# Altium footprint library SMD 1x1x0.85mm.PcbLib: 1 footprints
Each footprint in its own frame and in the unit in brackets; x right, y up, seen from the top. Pads: shape width x height; smd on the part's side, far side on the other; paste and mask are expansions set on the pad; w line width, h text height; cw(c..) or ccw(c..) is an arc to the next point about the centre after c.
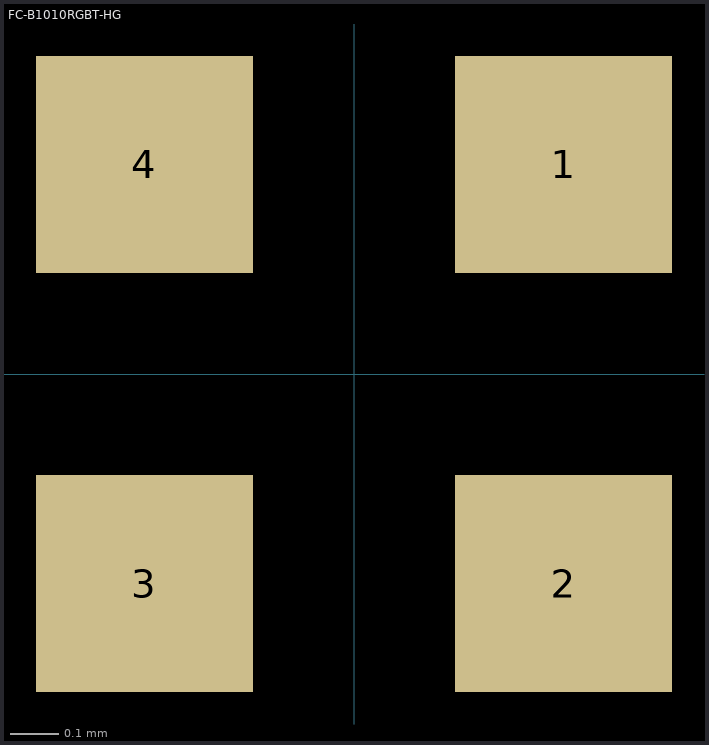
[diagram p0: the footprint, top view; thin cyan lines are the x and y axes]

## FC-B1010RGBT-HG [mm]
height 0.85
pads (4):
  rect 0.45x0.45 smd: 1(0.435,0.435) 2(0.435,-0.435) 3(-0.435,-0.435) 4(-0.435,0.435)
3D body: height 0.85, standoff 0, extent -0.5,-0.5 0.5,0.5